# Altium footprint library con-lumberg.PCBLIB: 62 footprints (part 2 of 4)
Each footprint in its own frame and in the unit in brackets; x right, y up, seen from the top. Pads: shape width x height; smd on the part's side, far side on the other; paste and mask are expansions set on the pad; w line width, h text height; cw(c..) or ccw(c..) is an arc to the next point about the centre after c.
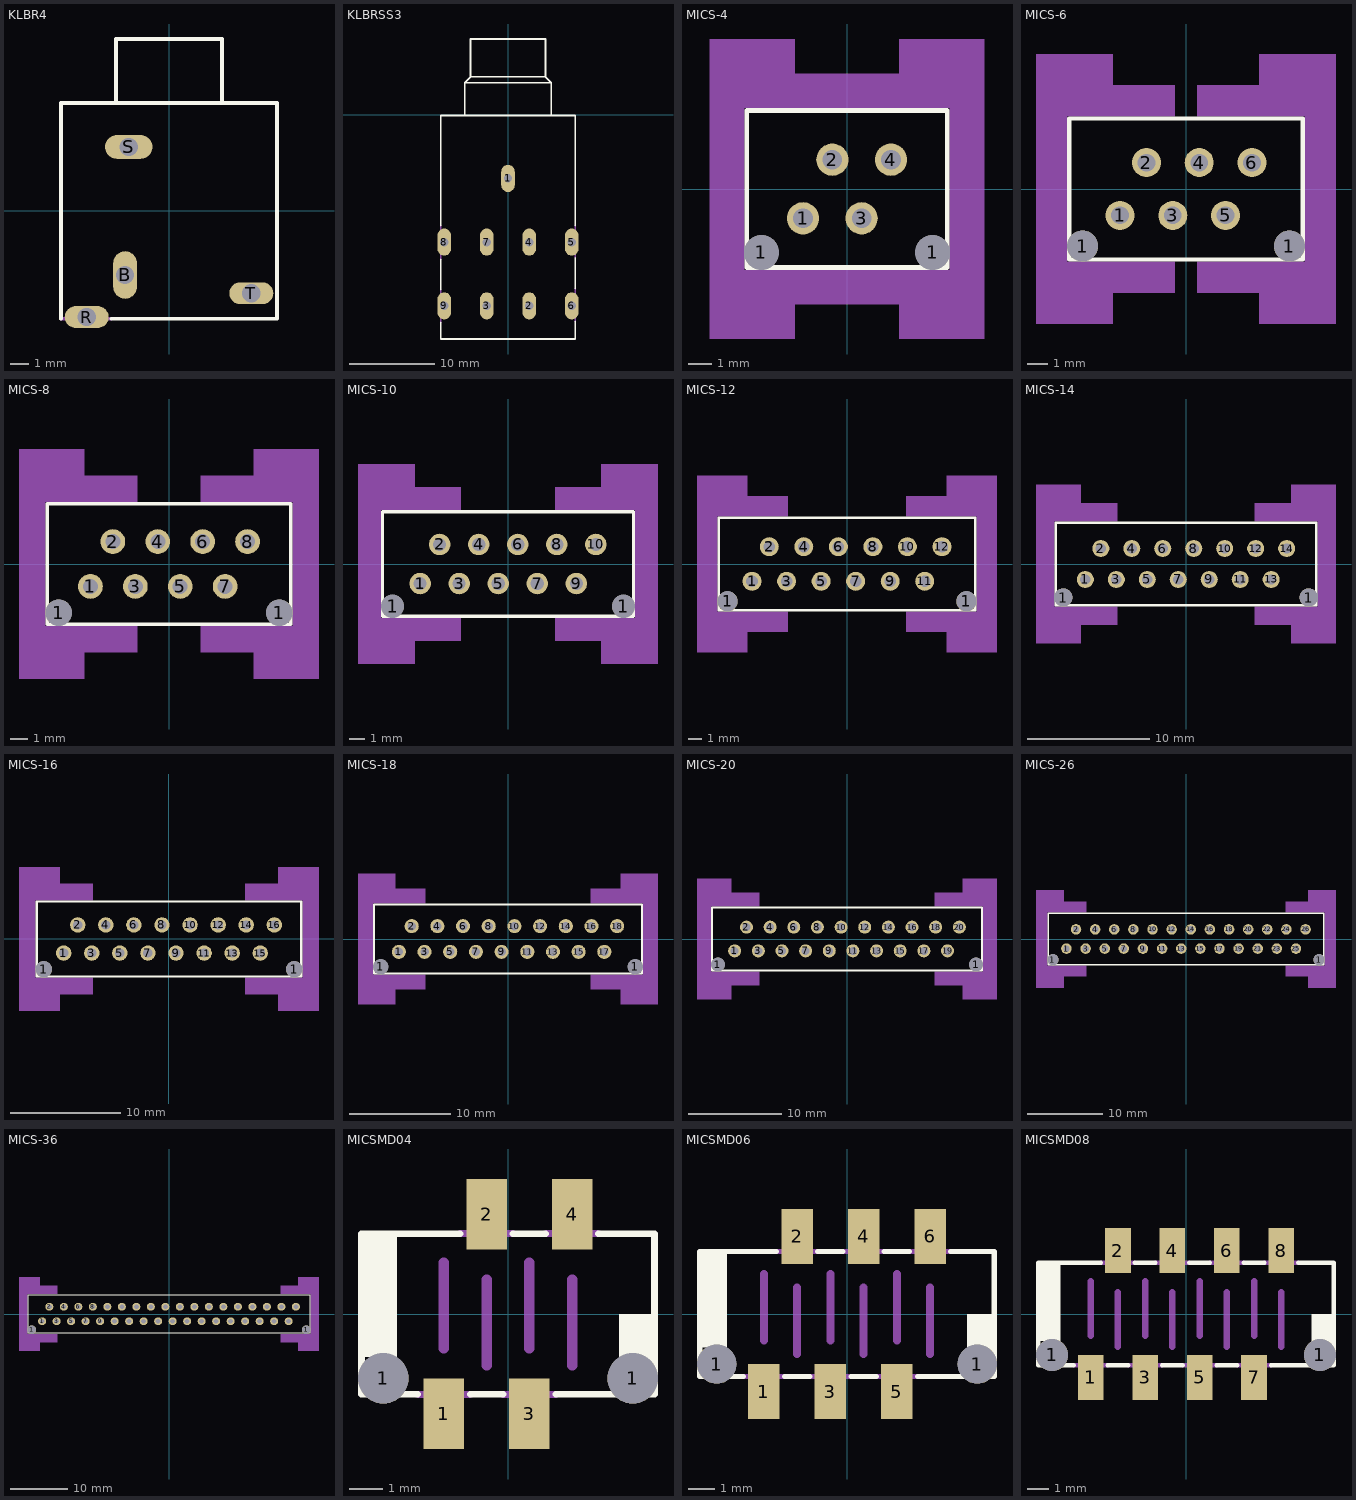
[diagram p1: the footprints below, top view; thin cyan lines are the x and y axes]

## KLBR4 [mm]
pads (4):
  oval 1.3x2.6 hole 1: B(-2.4,-3.5)
  oval 2.4x1.2 hole 1: R(-4.5,-5.8) T(4.5,-4.5)
  oval 2.6x1.3 hole 1: S(-2.2,3.5)
Top Overlay:
  lines w0.203: -5.9,-5.9 -5.9,5.9 5.9,5.9 5.9,-5.9 -3.15,-5.9 ; -2.9,6 -2.9,9.4 2.9,9.4 2.9,6
Mechanical 11:
  lines w0: -5.25,-5.8 cw(c-4.75,-5.8) -4.75,-5.3 -4.25,-5.3 cw(c-4.25,-5.8) -3.75,-5.8 cw(c-4.25,-5.8) -4.25,-6.3 -4.75,-6.3 cw(c-4.75,-5.8) -5.25,-5.8 ; -3.2,3.5 cw(c-2.7,3.5) -2.7,4 -1.7,4 cw(c-1.7,3.5) -1.2,3.5 cw(c-1.7,3.5) -1.7,3 -2.7,3 cw(c-2.7,3.5) -3.2,3.5 ; -2.9,-4 ccw(c-2.4,-4) -2.4,-4.5 ccw(c-2.4,-4) -1.9,-4 -1.9,-3 ccw(c-2.4,-3) -2.4,-2.5 ccw(c-2.4,-3) -2.9,-3 -2.9,-4 ; 3.75,-4.5 cw(c4.25,-4.5) 4.25,-4 4.75,-4 cw(c4.75,-4.5) 5.25,-4.5 cw(c4.75,-4.5) 4.75,-5 4.25,-5 cw(c4.25,-4.5) 3.75,-4.5
Mechanical 16:
  lines w0.203: -5.9,-5.9 -3.15,-5.9

## KLBRSS3 [mm]
pads (9):
  oval 1.6x3.2 hole 1: 1(0,-7.5) 2(2.5,-22.5) 3(-2.5,-22.5) 4(2.5,-15) 5(7.5,-15) 6(7.5,-22.5) 7(-2.5,-15) 8(-7.5,-15) 9(-7.5,-22.5)
Top Overlay:
  lines w0.203: -7.9,-24.45 -7.9,-26.4 7.9,-26.4 7.9,-24.35 ; -7.9,-20.6 -7.9,-17.05 ; -7.9,-13.05 -7.9,-0.1 7.9,-0.1 7.9,-13.05 ; -5.1,0 -5.1,3.75 ; 5.1,0 5.1,3.75 ; 7.9,-20.45 7.9,-16.85 ; -5.1,3.75 -4.4,4.45 ; -5.1,3.75 5.1,3.75 ; -4.4,4.45 -4.4,8.9 4.4,8.9 4.4,4.45 ; -4.4,4.45 4.4,4.45 ; 4.4,4.45 5.1,3.75
Mechanical 11:
  lines w0: -8,-23.1 ccw(c-7.5,-23.1) -7.5,-23.6 ccw(c-7.5,-23.1) -7,-23.1 -7,-21.9 ccw(c-7.5,-21.9) -7.5,-21.4 ccw(c-7.5,-21.9) -8,-21.9 -8,-23.1 ; -8,-15.6 ccw(c-7.5,-15.6) -7.5,-16.1 ccw(c-7.5,-15.6) -7,-15.6 -7,-14.4 ccw(c-7.5,-14.4) -7.5,-13.9 ccw(c-7.5,-14.4) -8,-14.4 -8,-15.6 ; -3,-23.1 ccw(c-2.5,-23.1) -2.5,-23.6 ccw(c-2.5,-23.1) -2,-23.1 -2,-21.9 ccw(c-2.5,-21.9) -2.5,-21.4 ccw(c-2.5,-21.9) -3,-21.9 -3,-23.1 ; -3,-15.6 ccw(c-2.5,-15.6) -2.5,-16.1 ccw(c-2.5,-15.6) -2,-15.6 -2,-14.4 ccw(c-2.5,-14.4) -2.5,-13.9 ccw(c-2.5,-14.4) -3,-14.4 -3,-15.6 ; -0.5,-8.1 ccw(c0,-8.1) 0,-8.6 ccw(c0,-8.1) 0.5,-8.1 0.5,-6.9 ccw(c0,-6.9) 0,-6.4 ccw(c0,-6.9) -0.5,-6.9 -0.5,-8.1 ; 2,-23.1 ccw(c2.5,-23.1) 2.5,-23.6 ccw(c2.5,-23.1) 3,-23.1 3,-21.9 ccw(c2.5,-21.9) 2.5,-21.4 ccw(c2.5,-21.9) 2,-21.9 2,-23.1 ; 2,-15.6 ccw(c2.5,-15.6) 2.5,-16.1 ccw(c2.5,-15.6) 3,-15.6 3,-14.4 ccw(c2.5,-14.4) 2.5,-13.9 ccw(c2.5,-14.4) 2,-14.4 2,-15.6 ; 7,-23.1 ccw(c7.5,-23.1) 7.5,-23.6 ccw(c7.5,-23.1) 8,-23.1 8,-21.9 ccw(c7.5,-21.9) 7.5,-21.4 ccw(c7.5,-21.9) 7,-21.9 7,-23.1 ; 7,-15.6 ccw(c7.5,-15.6) 7.5,-16.1 ccw(c7.5,-15.6) 8,-15.6 8,-14.4 ccw(c7.5,-14.4) 7.5,-13.9 ccw(c7.5,-14.4) 7,-14.4 7,-15.6
Mechanical 16:
  lines w0.203: -7.9,-24.45 -7.9,-20.6 ; -7.9,-17.05 -7.9,-13.05 ; 7.9,-24.35 7.9,-20.45 ; 7.9,-16.85 7.9,-13.05

## MICS-4 [mil]
pads (6):
  round 59.06 hole 59.06: 1(-145.87,-108.27) 1(145.87,-108.27)
  round 55 hole 33.46: 1(-75,-50) 2(-25,50) 3(25,-50) 4(75,50)
Top Overlay:
  lines w8: -171.26,-133.86 171.26,-133.86 171.26,133.86 -171.26,133.86 -171.26,-133.86
Mechanical 27:
  rectangle: 88.58,137.8 234.25,255.91
  rectangle: -29.53,137.8 90.55,196.85
  rectangle: -234.25,137.8 -88.58,255.91
  rectangle: -90.55,137.8 29.53,196.85
  rectangle: -234.25,-255.91 -88.58,-137.8
  rectangle: -90.55,-196.85 29.53,-137.8
  rectangle: 88.58,-255.91 234.25,-137.8
  rectangle: -29.53,-196.85 90.55,-137.8
  rectangle: -234.25,-139.76 -175.2,139.76
  rectangle: 175.2,-139.76 234.25,139.76

## MICS-6 [mil]
pads (8):
  round 59.06 hole 59.06: 1(-195.87,-108.27) 1(195.87,-108.27)
  round 55 hole 33.46: 1(-125,-50) 2(-75,50) 3(-25,-50) 4(25,50) 5(75,-50) 6(125,50)
Top Overlay:
  lines w8: -221.26,-133.86 221.26,-133.86 221.26,133.86 -221.26,133.86 -221.26,-133.86
Mechanical 27:
  rectangle: 138.58,137.8 284.25,255.91
  rectangle: 20.47,137.8 140.55,196.85
  rectangle: -284.25,137.8 -138.58,255.91
  rectangle: -140.55,137.8 -20.47,196.85
  rectangle: -284.25,-255.91 -138.58,-137.8
  rectangle: -140.55,-196.85 -20.47,-137.8
  rectangle: 138.58,-255.91 284.25,-137.8
  rectangle: 20.47,-196.85 140.55,-137.8
  rectangle: -284.25,-139.76 -225.2,139.76
  rectangle: 225.2,-139.76 284.25,139.76

## MICS-8 [mil]
pads (10):
  round 59.06 hole 59.06: 1(-245.87,-108.27) 1(245.87,-108.27)
  round 55 hole 33.46: 1(-175,-50) 2(-125,50) 3(-75,-50) 4(-25,50) 5(25,-50) 6(75,50) 7(125,-50) 8(175,50)
Top Overlay:
  lines w8: -271.26,-133.86 271.26,-133.86 271.26,133.86 -271.26,133.86 -271.26,-133.86
Mechanical 27:
  rectangle: 188.58,137.8 334.25,255.91
  rectangle: 70.47,137.8 190.55,196.85
  rectangle: -334.25,137.8 -188.58,255.91
  rectangle: -190.55,137.8 -70.47,196.85
  rectangle: -334.25,-255.91 -188.58,-137.8
  rectangle: -190.55,-196.85 -70.47,-137.8
  rectangle: 188.58,-255.91 334.25,-137.8
  rectangle: 70.47,-196.85 190.55,-137.8
  rectangle: -334.25,-139.76 -275.2,139.76
  rectangle: 275.2,-139.76 334.25,139.76

## MICS-10 [mil]
pads (12):
  round 59.06 hole 59.06: 1(-295.87,-108.27) 1(295.87,-108.27)
  round 55 hole 33.46: 1(-225,-50) 2(-175,50) 3(-125,-50) 4(-75,50) 5(-25,-50) 6(25,50) 7(75,-50) 8(125,50) 9(175,-50) 10(225,50)
Top Overlay:
  lines w8: -321.26,-133.86 321.26,-133.86 321.26,133.86 -321.26,133.86 -321.26,-133.86
Mechanical 27:
  rectangle: 238.58,137.8 384.25,255.91
  rectangle: 120.47,137.8 240.55,196.85
  rectangle: -384.25,137.8 -238.58,255.91
  rectangle: -240.55,137.8 -120.47,196.85
  rectangle: -384.25,-255.91 -238.58,-137.8
  rectangle: -240.55,-196.85 -120.47,-137.8
  rectangle: 238.58,-255.91 384.25,-137.8
  rectangle: 120.47,-196.85 240.55,-137.8
  rectangle: -384.25,-139.76 -325.2,139.76
  rectangle: 325.2,-139.76 384.25,139.76

## MICS-12 [mil]
pads (14):
  round 59.06 hole 59.06: 1(-345.87,-108.27) 1(345.87,-108.27)
  round 55 hole 33.46: 1(-275,-50) 2(-225,50) 3(-175,-50) 4(-125,50) 5(-75,-50) 6(-25,50) 7(25,-50) 8(75,50) 9(125,-50) 10(175,50) 11(225,-50) 12(275,50)
Top Overlay:
  lines w8: -371.26,-133.86 371.26,-133.86 371.26,133.86 -371.26,133.86 -371.26,-133.86
Mechanical 27:
  rectangle: 288.58,137.8 434.25,255.91
  rectangle: 170.47,137.8 290.55,196.85
  rectangle: -434.25,137.8 -288.58,255.91
  rectangle: -290.55,137.8 -170.47,196.85
  rectangle: -434.25,-255.91 -288.58,-137.8
  rectangle: -290.55,-196.85 -170.47,-137.8
  rectangle: 288.58,-255.91 434.25,-137.8
  rectangle: 170.47,-196.85 290.55,-137.8
  rectangle: -434.25,-139.76 -375.2,139.76
  rectangle: 375.2,-139.76 434.25,139.76

## MICS-14 [mil]
pads (16):
  round 59.06 hole 59.06: 1(-395.87,-108.27) 1(395.87,-108.27)
  round 55 hole 33.46: 1(-325,-50) 2(-275,50) 3(-225,-50) 4(-175,50) 5(-125,-50) 6(-75,50) 7(-25,-50) 8(25,50) 9(75,-50) 10(125,50) 11(175,-50) 12(225,50) 13(275,-50) 14(325,50)
Top Overlay:
  lines w8: -421.26,-133.86 421.26,-133.86 421.26,133.86 -421.26,133.86 -421.26,-133.86
Mechanical 27:
  rectangle: 338.58,137.8 484.25,255.91
  rectangle: 220.47,137.8 340.55,196.85
  rectangle: -484.25,137.8 -338.58,255.91
  rectangle: -340.55,137.8 -220.47,196.85
  rectangle: -484.25,-255.91 -338.58,-137.8
  rectangle: -340.55,-196.85 -220.47,-137.8
  rectangle: 338.58,-255.91 484.25,-137.8
  rectangle: 220.47,-196.85 340.55,-137.8
  rectangle: -484.25,-139.76 -425.2,139.76
  rectangle: 425.2,-139.76 484.25,139.76

## MICS-16 [mil]
pads (18):
  round 59.06 hole 59.06: 1(-445.87,-108.27) 1(445.87,-108.27)
  round 55 hole 33.46: 1(-375,-50) 2(-325,50) 3(-275,-50) 4(-225,50) 5(-175,-50) 6(-125,50) 7(-75,-50) 8(-25,50) 9(25,-50) 10(75,50) 11(125,-50) 12(175,50) 13(225,-50) 14(275,50) 15(325,-50) 16(375,50)
Top Overlay:
  lines w8: -471.26,-133.86 471.26,-133.86 471.26,133.86 -471.26,133.86 -471.26,-133.86
Mechanical 27:
  rectangle: 388.58,137.8 534.25,255.91
  rectangle: 270.47,137.8 390.55,196.85
  rectangle: -534.25,137.8 -388.58,255.91
  rectangle: -390.55,137.8 -270.47,196.85
  rectangle: -534.25,-255.91 -388.58,-137.8
  rectangle: -390.55,-196.85 -270.47,-137.8
  rectangle: 388.58,-255.91 534.25,-137.8
  rectangle: 270.47,-196.85 390.55,-137.8
  rectangle: -534.25,-139.76 -475.2,139.76
  rectangle: 475.2,-139.76 534.25,139.76

## MICS-18 [mil]
pads (20):
  round 59.06 hole 59.06: 1(-495.87,-108.27) 1(495.87,-108.27)
  round 55 hole 33.46: 1(-425,-50) 2(-375,50) 3(-325,-50) 4(-275,50) 5(-225,-50) 6(-175,50) 7(-125,-50) 8(-75,50) 9(-25,-50) 10(25,50) 11(75,-50) 12(125,50) 13(175,-50) 14(225,50) 15(275,-50) 16(325,50) 17(375,-50) 18(425,50)
Top Overlay:
  lines w8: -521.26,-133.86 521.26,-133.86 521.26,133.86 -521.26,133.86 -521.26,-133.86
Mechanical 27:
  rectangle: 438.58,137.8 584.25,255.91
  rectangle: 320.47,137.8 440.55,196.85
  rectangle: -584.25,137.8 -438.58,255.91
  rectangle: -440.55,137.8 -320.47,196.85
  rectangle: -584.25,-255.91 -438.58,-137.8
  rectangle: -440.55,-196.85 -320.47,-137.8
  rectangle: 438.58,-255.91 584.25,-137.8
  rectangle: 320.47,-196.85 440.55,-137.8
  rectangle: -584.25,-139.76 -525.2,139.76
  rectangle: 525.2,-139.76 584.25,139.76

## MICS-20 [mil]
pads (22):
  round 59.06 hole 59.06: 1(-545.87,-108.27) 1(545.87,-108.27)
  round 55 hole 33.46: 1(-475,-50) 2(-425,50) 3(-375,-50) 4(-325,50) 5(-275,-50) 6(-225,50) 7(-175,-50) 8(-125,50) 9(-75,-50) 10(-25,50) 11(25,-50) 12(75,50) 13(125,-50) 14(175,50) 15(225,-50) 16(275,50) 17(325,-50) 18(375,50) 19(425,-50) 20(475,50)
Top Overlay:
  lines w8: -571.26,-133.86 571.26,-133.86 571.26,133.86 -571.26,133.86 -571.26,-133.86
Mechanical 27:
  rectangle: 488.58,137.8 634.25,255.91
  rectangle: 370.47,137.8 490.55,196.85
  rectangle: -634.25,137.8 -488.58,255.91
  rectangle: -490.55,137.8 -370.47,196.85
  rectangle: -634.25,-255.91 -488.58,-137.8
  rectangle: -490.55,-196.85 -370.47,-137.8
  rectangle: 488.58,-255.91 634.25,-137.8
  rectangle: 370.47,-196.85 490.55,-137.8
  rectangle: -634.25,-139.76 -575.2,139.76
  rectangle: 575.2,-139.76 634.25,139.76

## MICS-26 [mil]
pads (28):
  round 59.06 hole 59.06: 1(-695.87,-108.27) 1(695.87,-108.27)
  round 55 hole 33.46: 1(-625,-50) 2(-575,50) 3(-525,-50) 4(-475,50) 5(-425,-50) 6(-375,50) 7(-325,-50) 8(-275,50) 9(-225,-50) 10(-175,50) 11(-125,-50) 12(-75,50) 13(-25,-50) 14(25,50) 15(75,-50) 16(125,50) 17(175,-50) 18(225,50) 19(275,-50) 20(325,50) 21(375,-50) 22(425,50) 23(475,-50) 24(525,50) 25(575,-50) 26(625,50)
Top Overlay:
  lines w8: -721.26,-133.86 721.26,-133.86 721.26,133.86 -721.26,133.86 -721.26,-133.86
Mechanical 27:
  rectangle: 638.58,137.8 784.25,255.91
  rectangle: 520.47,137.8 640.55,196.85
  rectangle: -784.25,137.8 -638.58,255.91
  rectangle: -640.55,137.8 -520.47,196.85
  rectangle: -784.25,-255.91 -638.58,-137.8
  rectangle: -640.55,-196.85 -520.47,-137.8
  rectangle: 638.58,-255.91 784.25,-137.8
  rectangle: 520.47,-196.85 640.55,-137.8
  rectangle: -784.25,-139.76 -725.2,139.76
  rectangle: 725.2,-139.76 784.25,139.76

## MICS-36 [mil]
pads (38):
  round 59.06 hole 59.06: 1(-945.87,-108.27) 1(945.87,-108.27)
  round 55 hole 33.46: 1(-875,-50) 2(-825,50) 3(-775,-50) 4(-725,50) 5(-675,-50) 6(-625,50) 7(-575,-50) 8(-525,50) 9(-475,-50) 10(-425,50) 11(-375,-50) 12(-325,50) 13(-275,-50) 14(-225,50) 15(-175,-50) 16(-125,50) 17(-75,-50) 18(-25,50) 19(25,-50) 20(75,50) 21(125,-50) 22(175,50) 23(225,-50) 24(275,50) 25(325,-50) 26(375,50) 27(425,-50) 28(475,50) 29(525,-50) 30(575,50) 31(625,-50) 32(675,50) 33(725,-50) 34(775,50) 35(825,-50) 36(875,50)
Top Overlay:
  lines w8: -971.26,-133.86 971.26,-133.86 971.26,133.86 -971.26,133.86 -971.26,-133.86
Mechanical 27:
  rectangle: 888.58,137.8 1034.25,255.91
  rectangle: 770.47,137.8 890.55,196.85
  rectangle: -1034.25,137.8 -888.58,255.91
  rectangle: -890.55,137.8 -770.47,196.85
  rectangle: -1034.25,-255.91 -888.58,-137.8
  rectangle: -890.55,-196.85 -770.47,-137.8
  rectangle: 888.58,-255.91 1034.25,-137.8
  rectangle: 770.47,-196.85 890.55,-137.8
  rectangle: -1034.25,-139.76 -975.2,139.76
  rectangle: 975.2,-139.76 1034.25,139.76

## MICSMD04 [mil]
pads (6):
  round 59.06 hole 59.06: 1(-145.87,-75.27) 1(145.87,-75.27)
  rect 47.24x82.68 smd: 1(-75,-116.5) 2(-25,116.5) 3(25,-116.5) 4(75,116.5)
Top Overlay:
  rectangle: -170,-50 -130,90
  rectangle: 130,-90 170,0
  lines w8: -105.98,-93.86 -171.26,-93.86 -171.26,93.86 -55.98,93.86 ; -44.02,-93.86 -5.98,-93.86 ; 5.98,93.86 44.02,93.86 ; 55.98,-93.86 171.26,-93.86 171.26,93.86 105.98,93.86
Mechanical 16:
  rectangle: -81,-147 -69,-99
  rectangle: -31,99 -19,147
  rectangle: 19,-147 31,-99
  rectangle: 69,99 81,147
  lines w8: -106,-94 -44,-94 ; -56,94 6,94 ; -6,-94 56,-94 ; 44,94 106,94
  lines w12: -75,-40 -75,60 ; -25,-60 -25,40 ; 25,-40 25,60 ; 75,-60 75,40

## MICSMD06 [mil]
pads (8):
  round 59.06 hole 59.06: 1(-195.87,-75.27) 1(195.87,-75.27)
  rect 47.24x82.68 smd: 1(-125,-116.5) 2(-75,116.5) 3(-25,-116.5) 4(25,116.5) 5(75,-116.5) 6(125,116.5)
Top Overlay:
  rectangle: -220,-50 -180,90
  rectangle: 180,-90 220,0
  lines w8: -155.98,-93.86 -221.26,-93.86 -221.26,93.86 -105.98,93.86 ; -94.02,-93.86 -55.98,-93.86 ; -44.02,93.86 -5.98,93.86 ; 5.98,-93.86 44.02,-93.86 ; 55.98,93.86 94.02,93.86 ; 105.98,-93.86 221.26,-93.86 221.26,93.86 155.98,93.86
Mechanical 16:
  rectangle: -131,-147 -119,-99
  rectangle: -81,99 -69,147
  rectangle: -31,-147 -19,-99
  rectangle: 19,99 31,147
  rectangle: 69,-147 81,-99
  rectangle: 119,99 131,147
  lines w8: -156,-94 -94,-94 ; -106,94 -44,94 ; -56,-94 6,-94 ; -6,94 56,94 ; 44,-94 106,-94 ; 94,94 156,94
  lines w12: -125,-40 -125,60 ; -75,-60 -75,40 ; -25,-40 -25,60 ; 25,-60 25,40 ; 75,-40 75,60 ; 125,-60 125,40

## MICSMD08 [mil]
pads (10):
  round 59.06 hole 59.06: 1(-245.87,-75.27) 1(245.87,-75.27)
  rect 47.24x82.68 smd: 1(-175,-116.5) 2(-125,116.5) 3(-75,-116.5) 4(-25,116.5) 5(25,-116.5) 6(75,116.5) 7(125,-116.5) 8(175,116.5)
Top Overlay:
  rectangle: -270,-50 -230,90
  rectangle: 230,-90 270,0
  lines w8: -205.98,-93.86 -271.26,-93.86 -271.26,93.86 -155.98,93.86 ; -144.02,-93.86 -105.98,-93.86 ; -94.02,93.86 -55.98,93.86 ; -44.02,-93.86 -5.98,-93.86 ; 5.98,93.86 44.02,93.86 ; 55.98,-93.86 94.02,-93.86 ; 105.98,93.86 144.02,93.86 ; 155.98,-93.86 271.26,-93.86 271.26,93.86 205.98,93.86
Mechanical 16:
  rectangle: -181,-147 -169,-99
  rectangle: -131,99 -119,147
  rectangle: -81,-147 -69,-99
  rectangle: -31,99 -19,147
  rectangle: 19,-147 31,-99
  rectangle: 69,99 81,147
  rectangle: 119,-147 131,-99
  rectangle: 169,99 181,147
  lines w8: -206,-94 -144,-94 ; -156,94 -94,94 ; -106,-94 -44,-94 ; -56,94 6,94 ; -6,-94 56,-94 ; 44,94 106,94 ; 94,-94 156,-94 ; 144,94 206,94
  lines w12: -175,-40 -175,60 ; -125,-60 -125,40 ; -75,-40 -75,60 ; -25,-60 -25,40 ; 25,-40 25,60 ; 75,-60 75,40 ; 125,-40 125,60 ; 175,-60 175,40